# Altium schematic symbol library Connectors.SchLib: 197 symbols (part 1 of 2)
Pins are listed as number, name and electrical type; pins without a type are passive.

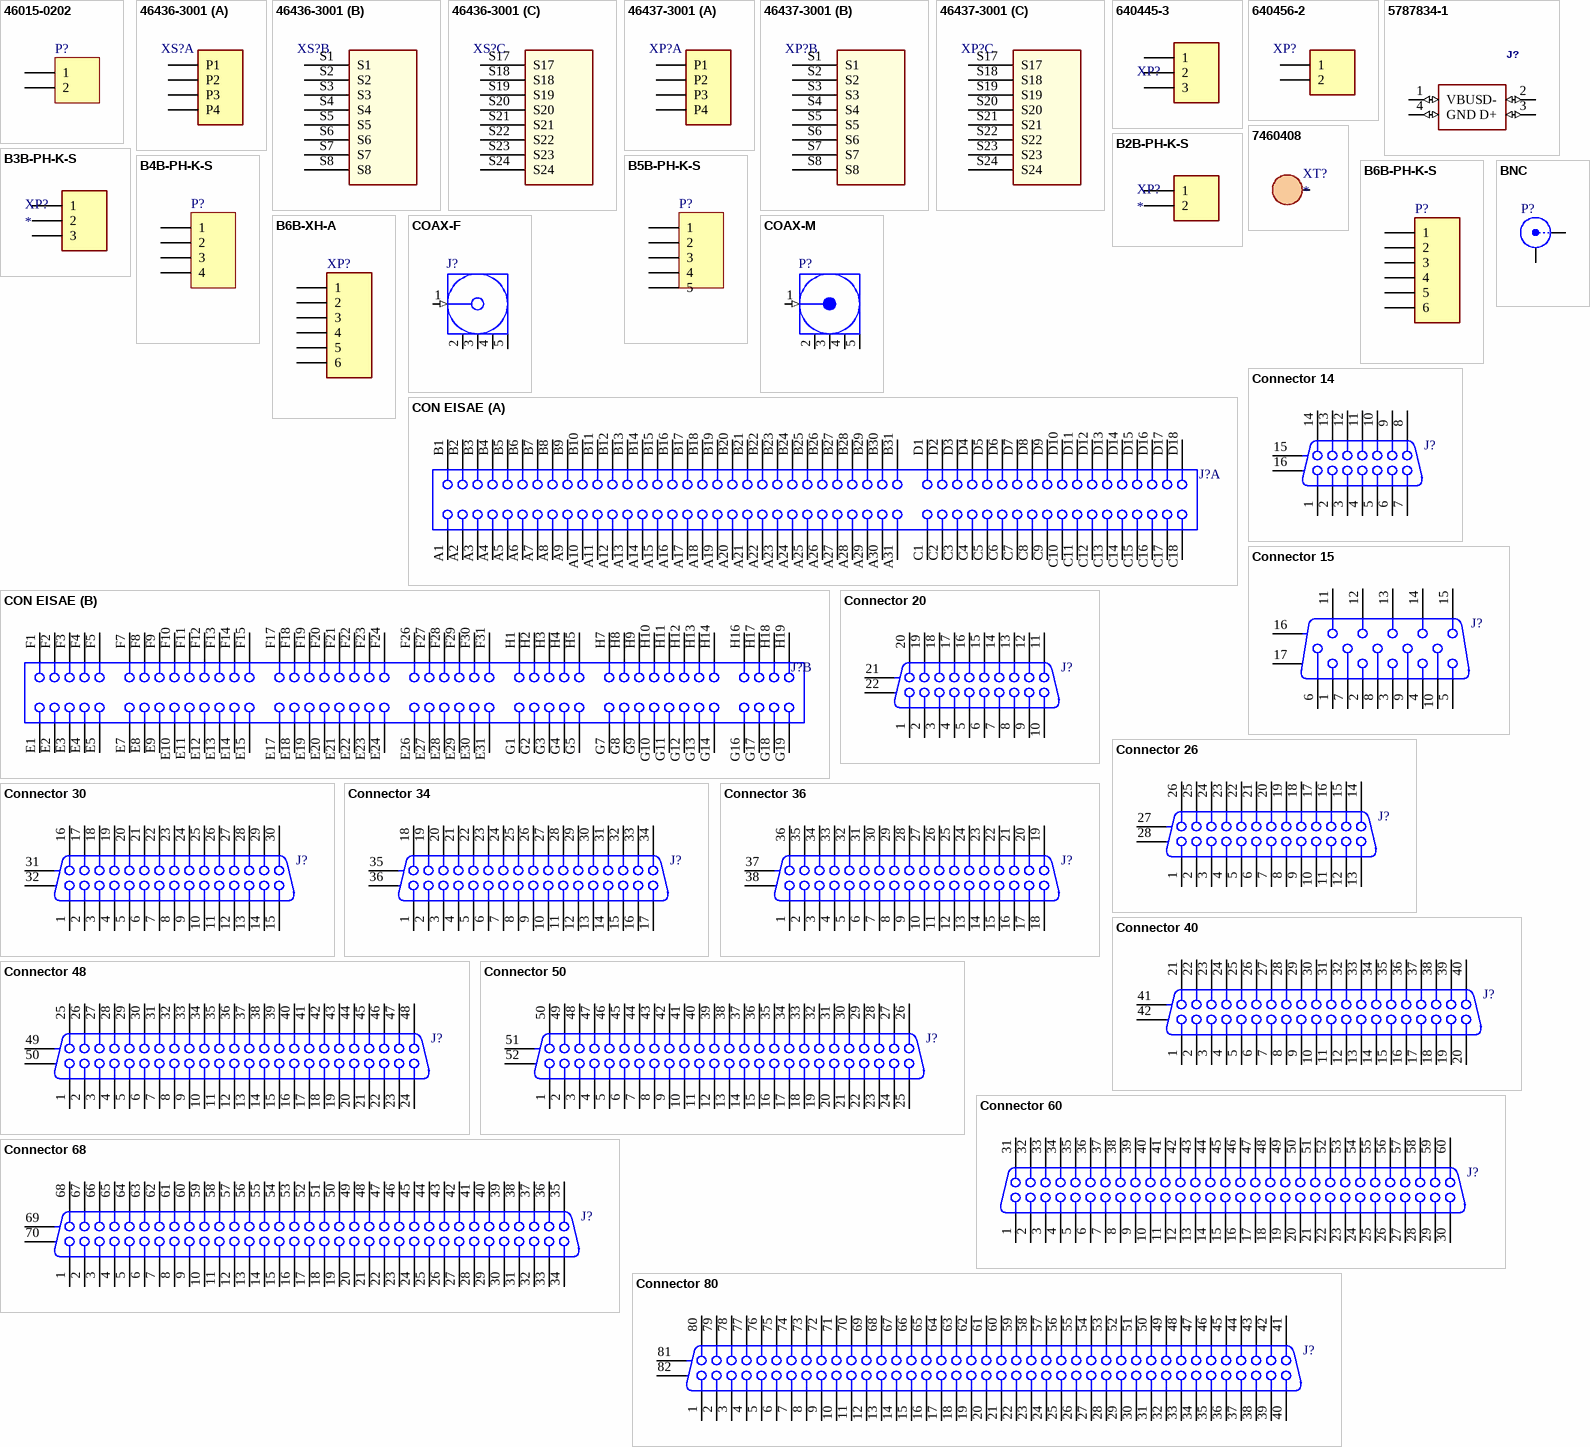
[diagram p0: symbols 46015-0202 to Connector 80]

## 46015-0202
designator P?
Header, 2-Pin, 4.2 mm, 13 A; Manufacturer: Molex; PurtNumber: 46015-0202
footprint 46015-0202
signal-integrity model Connector
pins: 1, 2

## 46436-3001
designator XS?
2.54mm, 5.50mm Pitch EXTreme Ten60Power Right-Angle Receptacle with Guide Receivers, 24 Signal Circuits, 4 Power Circuits; Manufacturer: TE Connectivity; PurtNumber: 46436-3001; System: Connector; ComponentLink1Description: OP; ComponentLink1URL: https://www.molex.com/molex/products/datasheet.jsp?part=active/0464363001_PCB_RECEPTACLES.xml&channel=Products&Lang=en-US
footprint 46436-3001
part A pins: P1, P2, P3, P4
part B pins: S1, S2, S3, S4, S5, S6, S7, S8
part C pins: S17, S18, S19, S20, S21, S22, S23, S24

## 46437-3001
designator XP?
2.54mm, 5.50mm Pitch EXTreme Ten60Power Right-Angle Plug Assembly with Guide Pins, 4 DC Power Circuits, 24 Signal Circuits; Manufacturer: TE Connectivity; PurtNumber: 46437-3001; System: Connector; ComponentLink1Description: OP; ComponentLink1URL: https://www.molex.com/molex/products/datasheet.jsp?part=active/0464363001_PCB_RECEPTACLES.xml&channel=Products&Lang=en-US
footprint 46437-3001
part A pins: P1, P2, P3, P4
part B pins: S1, S2, S3, S4, S5, S6, S7, S8
part C pins: S17, S18, S19, S20, S21, S22, S23, S24

## 640445-3
designator XP?
03P MTA156 HDR ASSY FL/STR SN; Manufacturer: TE Connectivity; PurtNumber: 640445-3
footprint 640445-3 - TE CONNECTIVVITY
pins: 1, 2, 3

## 640456-2
designator XP?
02P MTA100 HDR ASSY F/L SQ STR; Manufacturer: TE Connectivity; PurtNumber: 640456-2
footprint 640456-2 - TE CONNECTIVITY
pins: 1, 2

## 5787834-1
designator J?
USB type B vertical thru-hole socketSource:  Datasheet; Manufacturer_Name: TE Connectivity; GateName_1: G$1; SymbolName_1: 5787834-1; LibraryName: 5787834-1; DeviceSetName: 5787834-1; Package: 5787834-1; Mouser_Part_Number: 571-5787834-1; Mouser_Price-Stock: https://www.mouser.com/Search/Refine.aspx?Keyword=571-5787834-1; Manufacturer_Part_Number: 5787834-1; Height: mm
footprint 5787834-1
pins: 1 VBUS (io), 2 D- (io), 3 D+ (io), 4 GND (io)

## 7460408
designator XT?
Bush M5, 175 A; Manufacturer: Wurt; PurtNumber: 7460408; ComponentLink1Description: DS; ComponentLink1URL: https://ru.mouser.com/datasheet/2/445/7460408-538106.pdf
footprint 7460408 (Drill hole specification for chemical surfaces)
pins: 1

## B2B-PH-K-S
designator XP?
Manufacturer: JST; PurtNumber: B3B-PH-K-S
footprint B2B-PH-K-S
pins: 1, 2

## B3B-PH-K-S
designator XP?
Manufacturer: JST; PurtNumber: B3B-PH-K-S
footprint B3B-PH-K-S
pins: 1, 2, 3

## B4B-PH-K-S
designator P?
Header, 5-Pin B5B-PH-K-S; Manufacturer: JST; PurtNumber: B4B-PH-K-S
footprint B4B-PH-K-S
signal-integrity model Connector
pins: 1, 2, 3, 4

## B5B-PH-K-S
designator P?
Header, 5-Pin B5B-PH-K-S; LatestRevisionDate: 17-Jul-2002; LatestRevisionNote: Re-released for DXP Platform.; Publisher: Altium Limited
footprint B5B-PH-K-S
signal-integrity model Connector
pins: 1, 2, 3, 4, 5

## B6B-PH-K-S
designator P?
Header, 6-Pin; LatestRevisionDate: 17-Jul-2002; LatestRevisionNote: Re-released for DXP Platform.; Publisher: Altium Limited
footprint B6B-PH-K-S
signal-integrity model Connector
pins: 1, 2, 3, 4, 5, 6

## B6B-XH-A
designator XP?
B6B-XH-A; Manufacturer: JST; System: Connector; PurtNumber: B6B-XH-A
footprint B6B-XH-A
signal-integrity model Connector
pins: 1, 2, 3, 4, 5, 6

## BNC
designator P?
BNC Elbow Connector; LatestRevisionDate: 17-Jul-2002; LatestRevisionNote: Re-released for DXP Platform.; Publisher: Altium Limited
footprint BNC_RA CON (Connector; BNC Elbow)
signal-integrity model Connector
pins: 1 X, 2 Y

## COAX-F
designator J?
RF Coaxial PCB Connector, MCX; Thru-Hole, Right-Angle Mount Socket, Blunt Post Terminal, 50 Ohm Impedance; PCB_Layout: Complies with manufacturer's recommendation.; DrillSize: Corresponds to nominal value.; Published: 15-Jul-2004; LatestRevisionDate: 15-Jul-2004; LatestRevisionNote: Component Replaced.; DatasheetDocument: 30-May-2003; PackageDocument: 04-Jul-1999; PackageReference: 919-119J-51AX; Publisher: Altium Limited; ComponentLink1Description: Manufacturer Link; ComponentLink1URL: http://www.amphenolrf.com/
footprint MCX5.08-H5 (Connector; RF Coaxial, MCX, Thru-Hole; 5 Position; Right-Angle)
pins: 1 Signal (in) "Signal Pin", 2 GND (power), 3 GND (power), 4 GND (power), 5 GND (power)

## COAX-M
designator P?
RF Coaxial PCB Connector, MMCX; Thru-Hole, Vertical Mount Plug,  50 Ohm Impedance; PackageDocument: Rev. A, 16-Jun-1997; PCB_Layout: Complies with manufacturer's recommendation.; DrillSize: Corresponds to nominal value.; Published: 15-Jul-2004; LatestRevisionDate: 15-Jul-2004; LatestRevisionNote: Component Replaced.; DatasheetDocument: 30-May-2003; PackageReference: 908-21103; Publisher: Altium Limited; ComponentLink1Description: Manufacturer Link; ComponentLink1URL: http://www.amphenolrf.com/
footprint MMCX2.54-V5 (Connector; RF Coaxial, MMCX, Thru-Hole; 5 Position; Vertical)
pins: 1 Signal (in) "Signal Pin", 2 GND (power), 3 GND (power), 4 GND (power), 5 GND (power)

## CON EISAE
designator J?
EISA Connector, 188 Positions, Vertical, Pitch 1.27mm; ContactPlating: Gold Flash; PCB_Layout: Complies with manufacturer's recommendation.; DrillSize: Corresponds to nominal value.; Note: Access Keys, E6 E16 E25 F6 F16 F25 G6 G15 H6 H15 not shown.; Published: 15-Jul-2004; LatestRevisionDate: 15-Jul-2004; LatestRevisionNote: Component Replaced.; DatasheetDocument: Feb-1997; PackageDocument: Feb-1997; PackageReference: EISA188; Publisher: Altium Limited; ComponentLink1Description: Manufacturer Link; ComponentLink1URL: http://www.astron.com.tw
footprint CARD1.27-2V188 (Connector; EISA, Thru-Hole; 188 Position; Vertical; Pitch 1.27 mm)
signal-integrity model EISA
part A pins: A1 CHCHK#, A2 SD7, A3 SD6, A4 SD5, A5 SD4, A6 SD3, A7 SD2, A8 SD1, A9 SD0, A10 CHRDY, A11 AEN, A12 SA19, A13 SA18, A14 SA17, A15 SA16, A16 SA15, A17 SA14, A18 SA13, A19 SA12, A20 SA11, A21 SA10, A22 SA9, A23 SA8, A24 SA7, A25 SA6, A26 SA5, A27 SA4, A28 SA3, A29 SA2, A30 SA1, A31 SA0, B1 GND "Ground", B2 RESDRV#, B3 +5V "+5 VDC", B4 IRQ2, B5 -5V, B6 DRQ2, B7 -12V, B8 NOWS#, B9 +12V "+12 VDC", B10 GND, B11 SMWTC#, B12 SMRDC#, B13 IOWC#, B14 IORC#, B15 DAK3#, B16 DRQ3, B17 DAK1#, B18 DRQ1, B19 REFRESH#, B20 BCLK, B21 IRQ7, B22 IRQ6, B23 IRQ5, B24 IRQ4, B25 IRQ3, B26 DAK2#, B27 TC, B28 BALE, B29 +5V "+5 VDC", B30 OSC, B31 GND "Ground", C1 SBHE#, C2 LA23, C3 LA22, C4 LA21, C5 LA20, C6 LA19, C7 LA18, C8 LA17, C9 MRDC#, C10 MWTC#, C11 SD8, C12 SD9, C13 SD10, C14 SD11, C15 SD12, C16 SD13, C17 SD14, C18 SD15, D1 M16#, D2 IO16#, D3 IRQ10, D4 IRQ11, D5 IRQ12, D6 IRQ13, D7 IRQ14, D8 DAK0#, D9 DRQ0, D10 DAK5#, D11 DRQ5, D12 DAK6#, D13 DRQ65, D14 DAK7#, D15 DRQ7, D16 +5V "+5 VDC", D17 MASTER16#, D18 GND "Ground"
part B pins: E1 CMD# "Command Phase", E2 START# "Start Phase", E3 EXRDY "EISA Ready", E4 EX32# "EISA Slave Size 32", E5 GND "Ground", E7 EX16# "EISA Slave Size 16", E8 SLBURST# "Slave Burst", E9 MSBURST# "Master Burst", E10 W/R# "Write/Read", E11 GND "Ground", E12 RES "Reserved", E13 RES "Reserved", E14 RES "Reserved", E15 GND "Ground", E17 BE1# "Byte Enable 1", E18 LA31# "Latchable Addressline 31", E19 GND "Ground", E20 LA30# "Latchable Addressline 30", E21 LA28# "Latchable Addressline 28", E22 LA27# "Latchable Addressline 27", E23 LA25# "Latchable Addressline 25", E24 GND "Ground", E26 LA15 "Latchable Addressline 15", E27 LA13 "Latchable Addressline 13", E28 LA12 "Latchable Addressline 12", E29 LA11 "Latchable Addressline 11", E30 GND "Ground", E31 LA9 "Latchable Addressline 9", F1 GND "Ground", F2 +5V "+5 VDC", F3 +5V "+5 VDC", F4 RES "Reserved", F5 RES "Reserved", F7 RES "Reserved", F8 RES "Reserved", F9 +12V "+12 VDC", F10 M/IO# "Memory/Input-Output", F11 LOCK# "Lock bus", F12 RES "Reserved", F13 GND "Ground", F14 RES "Reserved", F15 BE3# "Byte Enable 3", F17 BE2# "Byte Enable 2", F18 BE0# "Byte Enable 0", F19 GND "Ground", F20 +5V "+5 VDC", F21 LA29# "Latchable Addressline 29", F22 GND "Ground", F23 LA26# "Latchable Addressline 26", F24 LA24# "Latchable Addressline 24", F26 LA16 "Latchable Addressline 16", F27 LA14 "Latchable Addressline 14", F28 +5V "+5 VDC", F29 +5V "+5 VDC", F30 GND "Ground", F31 LA10 "Latchable Addressline 10", G1 LA7 "Latchable Addressline 7", G2 GND "Ground", G3 LA4 "Latchable Addressline 4", G4 LA3 "Latchable Addressline 3", G5 GND "Ground", G7 D17 "Data 17", G8 D19 "Data 19", G9 D20 "Data 20", G10 D22 "Data 22", G11 GND "Ground", G12 D25 "Data 25", G13 D26 "Data 26", G14 D28 "Data 28", G16 GND "Ground", G17 D30 "Data 30", G18 D31 "Data 31", G19 MREQx "Master Request", H1 LA8 "Latchable Addressline 8", H2 LA6 "Latchable Addressline 6", H3 LA5 "Latchable Addressline 5", H4 +5V "+5 VDC", H5 LA2 "Latchable Addressline 2", H7 D16 "Data 16", H8 D18 "Data 18", H9 GND "Ground", H10 D21 "Data 21", H11 D23 "Data 23", H12 D24 "Data 24", H13 GND "Ground", H14 D27 "Data 27", H16 D29 "Data 29", H17 +5V "+5 VDC", H18 +5V "+5 VDC", H19 MAKx "Master Acknowledge"

## Connector 14
designator J?
Receptacle Header Assemby; PackageDocument: B; Positions: 14; Published: 15-Jun-2001; LatestRevisionDate: 17-Jul-2002; LatestRevisionNote: Re-released for DXP Platform.; DatasheetDocument: 1-Oct-1983; PackageReference: 178240-1; Publisher: Altium Limited; Orientation: Right Angle
footprint CHAMP1.27-2H14A (Connector; 14 Position; Right Angle; Pitch 1.27 mm)
signal-integrity model Connector
pins: 1, 2, 3, 4, 5, 6, 7, 8, 9, 10, 11, 12, 13, 14, 15 MH1, 16 MH2

## Connector 15
designator J?
Receptacle Assembly, 15-Pin, Sim Line Connector; PackageDocument: B; Positions: 15; Gender: Receptacle Header; Published: 15-Jun-2001; LatestRevisionDate: 17-Jul-2002; LatestRevisionNote: Re-released for DXP Platform.; DatasheetDocument: 24-Nov-1999; PackageReference: 788574; Publisher: Altium Limited; Orientation: Right Angle
footprint 050DSUB0.762-4H15 (Connector; D Subminiature; 15 Position; Right Angle; Pitch 0.762 mm)
signal-integrity model Connector
pins: 1, 2, 3, 4, 5, 6, 7, 8, 9, 10, 11, 12, 13, 14, 15, 16 MH1, 17 MH2

## Connector 20
designator J?
Receptacle Header Assemby; PackageDocument: B; Positions: 20; Published: 15-Jun-2001; LatestRevisionDate: 17-Jul-2002; LatestRevisionNote: Re-released for DXP Platform.; DatasheetDocument: 1-Oct-1983; PackageReference: 178240-2; Publisher: Altium Limited; Orientation: Right Angle
footprint CHAMP1.27-2H20 (Connector; 20 Position; Right Angle; Pitch 1.27 mm)
signal-integrity model Connector
pins: 1, 2, 3, 4, 5, 6, 7, 8, 9, 10, 11, 12, 13, 14, 15, 16, 17, 18, 19, 20, 21 MH1, 22 MH2

## Connector 26
designator J?
Receptacle Header Assemby; PackageDocument: B; Positions: 26; Published: 15-Jun-2001; LatestRevisionDate: 17-Jul-2002; LatestRevisionNote: Re-released for DXP Platform.; DatasheetDocument: 1-Oct-1983; PackageReference: 178240-4; Publisher: Altium Limited; Orientation: Right Angle
footprint CHAMP1.27-2H26 (Connector; 26 Position; Right Angle; Pitch 1.27 mm)
signal-integrity model Connector
pins: 1, 2, 3, 4, 5, 6, 7, 8, 9, 10, 11, 12, 13, 14, 15, 16, 17, 18, 19, 20, 21, 22, 23, 24, 25, 26, 27 MH1, 28 MH2

## Connector 30
designator J?
Plug Assembly, 30-Pin Connector; PackageDocument: E; Positions: 30; Gender: Receptacle Header; Published: 15-Jun-2001; LatestRevisionDate: 17-Jul-2002; LatestRevisionNote: Re-released for DXP Platform.; DatasheetDocument: 31-Oct-1991; PackageReference: 174213-1; Publisher: Altium Limited; Orientation: Right Angle
footprint 050DSUB1.27-2H30 (Connector; D Subminiature; 30 Position; Right Angle; Pitch 1.27 mm)
signal-integrity model Connector
pins: 1, 2, 3, 4, 5, 6, 7, 8, 9, 10, 11, 12, 13, 14, 15, 16, 17, 18, 19, 20, 21, 22, 23, 24, 25, 26, 27, 28, 29, 30, 31 MH1, 32 MH2

## Connector 34
designator J?
Plug Assembly, 34-Pin Connector; PackageDocument: F; Positions: 34; Gender: Receptacle Header; Published: 15-Jun-2001; LatestRevisionDate: 17-Jul-2002; LatestRevisionNote: Re-released for DXP Platform.; DatasheetDocument: 3-Apr-1991; PackageReference: 174207-5; Publisher: Altium Limited; Orientation: Right Angle
footprint 050DSUB1.27-2H34 (Connector; D Subminiature; 34 Position; Right Angle; Pitch 1.27 mm)
signal-integrity model Connector
pins: 1, 2, 3, 4, 5, 6, 7, 8, 9, 10, 11, 12, 13, 14, 15, 16, 17, 18, 19, 20, 21, 22, 23, 24, 25, 26, 27, 28, 29, 30, 31, 32, 33, 34, 35 MH1, 36 MH2

## Connector 36
designator J?
Receptacle Header Assemby; PackageDocument: B; Positions: 36; Published: 15-Jun-2001; LatestRevisionDate: 17-Jul-2002; LatestRevisionNote: Re-released for DXP Platform.; DatasheetDocument: 1-Oct-1983; PackageReference: 178240-5; Publisher: Altium Limited; Orientation: Right Angle
footprint CHAMP1.27-2H36 (Connector; 36 Position; Right Angle; Pitch 1.27 mm)
signal-integrity model Connector
pins: 1, 2, 3, 4, 5, 6, 7, 8, 9, 10, 11, 12, 13, 14, 15, 16, 17, 18, 19, 20, 21, 22, 23, 24, 25, 26, 27, 28, 29, 30, 31, 32, 33, 34, 35, 36, 37 MH1, 38 MH2

## Connector 40
designator J?
Plug Assembly, 40-Pin Connector; PackageDocument: E; Positions: 40; Gender: Receptacle Header; Published: 15-Jun-2001; LatestRevisionDate: 17-Jul-2002; LatestRevisionNote: Re-released for DXP Platform.; DatasheetDocument: 31-Oct-1991; PackageReference: 174213-2; Publisher: Altium Limited; Orientation: Right Angle
footprint 050DSUB1.27-2H40 (Connector; D Subminiature; 40 Position; Right Angle; Pitch 1.27 mm)
signal-integrity model Connector
pins: 1, 2, 3, 4, 5, 6, 7, 8, 9, 10, 11, 12, 13, 14, 15, 16, 17, 18, 19, 20, 21, 22, 23, 24, 25, 26, 27, 28, 29, 30, 31, 32, 33, 34, 35, 36, 37, 38, 39, 40, 41 MH1, 42 MH2

## Connector 48
designator J?
Plug Assembly, 48-Pin Connector; PackageDocument: F; Positions: 48; Gender: Receptacle Header; Published: 15-Jun-2001; LatestRevisionDate: 17-Jul-2002; LatestRevisionNote: Re-released for DXP Platform.; DatasheetDocument: 3-Apr-1991; PackageReference: 174207-6; Publisher: Altium Limited; Orientation: Right Angle
footprint 050DSUB1.27-2H48 (Connector; D Subminiature; 48 Position; Right Angle; Pitch 1.27 mm)
signal-integrity model Connector
pins: 1, 2, 3, 4, 5, 6, 7, 8, 9, 10, 11, 12, 13, 14, 15, 16, 17, 18, 19, 20, 21, 22, 23, 24, 25, 26, 27, 28, 29, 30, 31, 32, 33, 34, 35, 36, 37, 38, 39, 40, 41, 42, 43, 44, 45, 46, 47, 48, 49 MH1, 50 MH2

## Connector 50
designator J?
Receptacle Header Assemby; PackageDocument: B; Positions: 50; Published: 15-Jun-2001; LatestRevisionDate: 17-Jul-2002; LatestRevisionNote: Re-released for DXP Platform.; DatasheetDocument: 1-Oct-1983; PackageReference: 178240-7; Publisher: Altium Limited; Orientation: Right Angle
footprint CHAMP1.27-2H50 (Connector; 50 Position; Right Angle; Pitch 1.27 mm)
signal-integrity model Connector
pins: 1, 2, 3, 4, 5, 6, 7, 8, 9, 10, 11, 12, 13, 14, 15, 16, 17, 18, 19, 20, 21, 22, 23, 24, 25, 26, 27, 28, 29, 30, 31, 32, 33, 34, 35, 36, 37, 38, 39, 40, 41, 42, 43, 44, 45, 46, 47, 48, 49, 50, 51 MH1, 52 MH2

## Connector 60
designator J?
Plug Assembly, 60-Pin Connector; PackageDocument: D; Positions: 60; Gender: Receptacle Header; Published: 15-Jun-2001; LatestRevisionDate: 17-Jul-2002; LatestRevisionNote: Re-released for DXP Platform.; DatasheetDocument: 1-Apr-1991; PackageReference: 174215-4; Publisher: Altium Limited; Orientation: Vertical
footprint 050DSUB1.27-V60 (Connector; D Subminiature; 60 Position; Vertical; Pitch 1.27 mm)
signal-integrity model Connector
pins: 1, 2, 3, 4, 5, 6, 7, 8, 9, 10, 11, 12, 13, 14, 15, 16, 17, 18, 19, 20, 21, 22, 23, 24, 25, 26, 27, 28, 29, 30, 31, 32, 33, 34, 35, 36, 37, 38, 39, 40, 41, 42, 43, 44, 45, 46, 47, 48, 49, 50, 51, 52, 53, 54, 55, 56, 57, 58, 59, 60

## Connector 68
designator J?
Receptacle Header Assemby; PackageDocument: B; Positions: 68; Published: 15-Jun-2001; LatestRevisionDate: 17-Jul-2002; LatestRevisionNote: Re-released for DXP Platform.; DatasheetDocument: 1-Oct-1983; PackageReference: 178240-8; Publisher: Altium Limited; Orientation: Right Angle
footprint CHAMP1.27-2H68 (Connector; 68 Position; Right Angle; Pitch 1.27 mm)
signal-integrity model Connector
pins: 1, 2, 3, 4, 5, 6, 7, 8, 9, 10, 11, 12, 13, 14, 15, 16, 17, 18, 19, 20, 21, 22, 23, 24, 25, 26, 27, 28, 29, 30, 31, 32, 33, 34, 35, 36, 37, 38, 39, 40, 41, 42, 43, 44, 45, 46, 47, 48, 49, 50, 51, 52, 53, 54, 55, 56, 57, 58, 59, 60, 61, 62, 63, 64, 65, 66, 67, 68, 69 MH1, 70 MH2

## Connector 80
designator J?
Receptacle Header Assemby; PackageDocument: C; Positions: 80; Published: 15-Jun-2001; LatestRevisionDate: 17-Jul-2002; LatestRevisionNote: Re-released for DXP Platform.; DatasheetDocument: 1-Oct-1983; PackageReference: 917334; Publisher: Altium Limited; Orientation: Vertical
footprint CHAMP1.27-2V80 (Connector; 80 Position; Vertical; Pitch 1.27 mm)
signal-integrity model Connector
pins: 1, 2, 3, 4, 5, 6, 7, 8, 9, 10, 11, 12, 13, 14, 15, 16, 17, 18, 19, 20, 21, 22, 23, 24, 25, 26, 27, 28, 29, 30, 31, 32, 33, 34, 35, 36, 37, 38, 39, 40, 41, 42, 43, 44, 45, 46, 47, 48, 49, 50, 51, 52, 53, 54, 55, 56, 57, 58, 59, 60, 61, 62, 63, 64, 65, 66, 67, 68, 69, 70, 71, 72, 73, 74, 75, 76, 77, 78, 79, 80, 81 MH1, 82 MH2

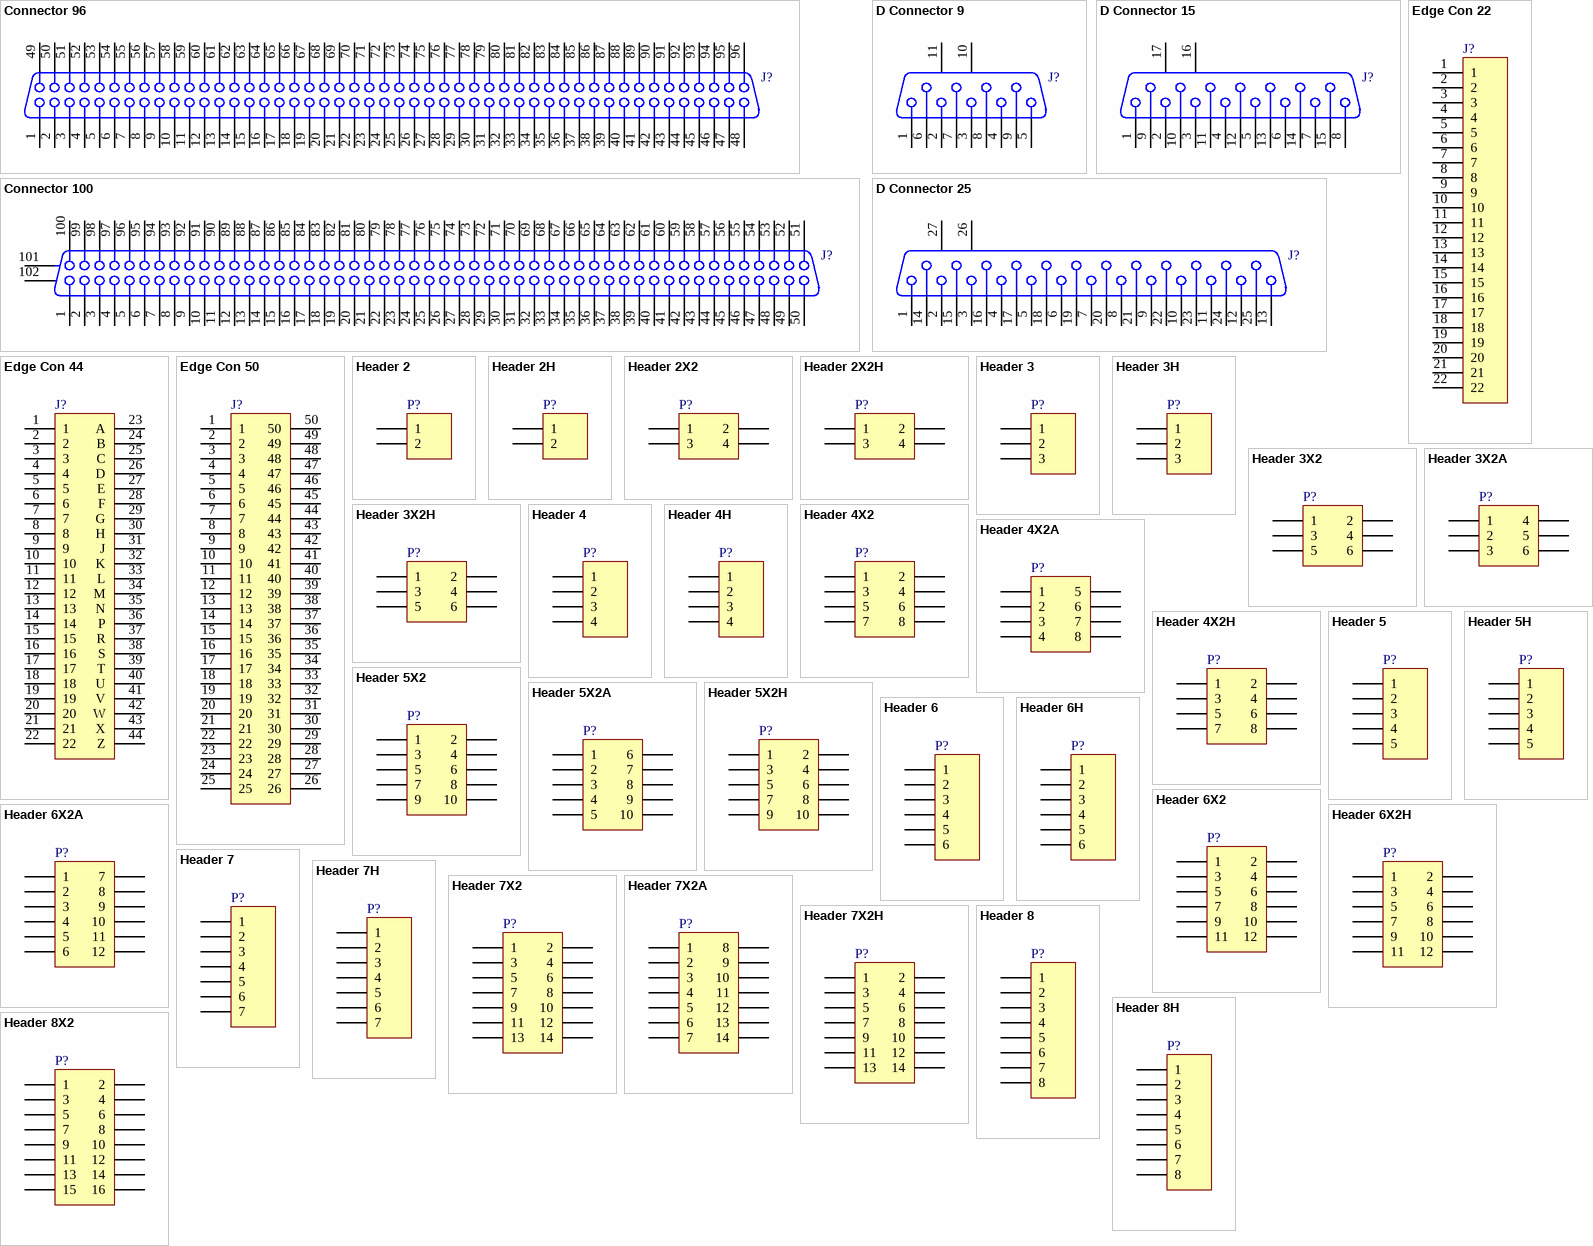
[diagram p1: symbols Connector 96 to Header 8X2]

## Connector 96
designator J?
Plug Assembly, 96-Pin Connector; PackageDocument: C; Positions: 96; Gender: Receptacle Header; Published: 15-Jun-2001; LatestRevisionDate: 17-Jul-2002; LatestRevisionNote: Re-released for DXP Platform.; DatasheetDocument: 29-Mar-1991; PackageReference: 3-174682-8; Publisher: Altium Limited; Orientation: Right Angle
footprint 050DSUB1.27-H96 (Connector; D Subminiature; 96 Position; Right Angle; Pitch 1.27 mm)
signal-integrity model Connector
pins: 1, 2, 3, 4, 5, 6, 7, 8, 9, 10, 11, 12, 13, 14, 15, 16, 17, 18, 19, 20, 21, 22, 23, 24, 25, 26, 27, 28, 29, 30, 31, 32, 33, 34, 35, 36, 37, 38, 39, 40, 41, 42, 43, 44, 45, 46, 47, 48, 49, 50, 51, 52, 53, 54, 55, 56, 57, 58, 59, 60, 61, 62, 63, 64, 65, 66, 67, 68, 69, 70, 71, 72, 73, 74, 75, 76, 77, 78, 79, 80, 81, 82, 83, 84, 85, 86, 87, 88, 89, 90, 91, 92, 93, 94, 95, 96

## Connector 100
designator J?
Receptacle Header Assemby; PackageDocument: B; Positions: 100; Published: 15-Jun-2001; LatestRevisionDate: 17-Jul-2002; LatestRevisionNote: Re-released for DXP Platform.; DatasheetDocument: 1-Oct-1983; PackageReference: 178240-9; Publisher: Altium Limited; Orientation: Right Angle
footprint CHAMP1.27-2H100 (Connector; 100 Position; Right Angle; Pitch 1.27 mm)
signal-integrity model Connector
pins: 1, 2, 3, 4, 5, 6, 7, 8, 9, 10, 11, 12, 13, 14, 15, 16, 17, 18, 19, 20, 21, 22, 23, 24, 25, 26, 27, 28, 29, 30, 31, 32, 33, 34, 35, 36, 37, 38, 39, 40, 41, 42, 43, 44, 45, 46, 47, 48, 49, 50, 51, 52, 53, 54, 55, 56, 57, 58, 59, 60, 61, 62, 63, 64, 65, 66, 67, 68, 69, 70, 71, 72, 73, 74, 75, 76, 77, 78, 79, 80, 81, 82, 83, 84, 85, 86, 87, 88, 89, 90, 91, 92, 93, 94, 95, 96, 97, 98, 99, 100, 101 MH1, 102 MH2

## D Connector 9
designator J?
Receptacle Assembly, 9 Position, Right Angle; PackageDocument: O; Positions: 9; Published: 15-Jun-2001; LatestRevisionDate: 17-Jul-2002; LatestRevisionNote: Re-released for DXP Platform.; DatasheetDocument: 1-Sep-1999; PackageReference: 788750; Publisher: Altium Limited; Orientation: Right Angle; Gender: Receptacle
footprint DSUB1.385-2H9 (Connector; D Subminiature; 9 Position; Right Angle; Pitch 1.385 mm)
signal-integrity model Connector
pins: 1, 2, 3, 4, 5, 6, 7, 8, 9, 10 MH1, 11 MH2

## D Connector 15
designator J?
Receptacle Assembly, 15 Position, Right Angle; PackageDocument: O; Positions: 15; Published: 15-Jun-2001; LatestRevisionDate: 17-Jul-2002; LatestRevisionNote: Re-released for DXP Platform.; DatasheetDocument: 1-Sep-99; PackageReference: 788757; Publisher: Altium Limited; Orientation: Right Angle; Gender: Receptacle
footprint DSUB1.385-2H15 (Connector; D Subminiature; 15 Position; Right Angle; Pitch 1.385 mm)
signal-integrity model Connector
pins: 1, 2, 3, 4, 5, 6, 7, 8, 9, 10, 11, 12, 13, 14, 15, 16 MH1, 17 MH2

## D Connector 25
designator J?
Receptacle Assembly, 25 Position, Right Angle; PackageDocument: U; Positions: 25; Published: 15-Jun-2001; LatestRevisionDate: 17-Jul-2002; LatestRevisionNote: Re-released for DXP Platform.; DatasheetDocument: 19-Mar-1999; PackageReference: 787202; Publisher: Altium Limited; Orientation: Right Angle; Gender: Receptacle
footprint DSUB1.385-2H25A (Connector; D Subminiature; 25 Position; Right Angle; Pitch 1.385 mm)
signal-integrity model Connector
pins: 1, 2, 3, 4, 5, 6, 7, 8, 9, 10, 11, 12, 13, 14, 15, 16, 17, 18, 19, 20, 21, 22, 23, 24, 25, 26 MH1, 27 MH2

## Edge Con 22
designator J?
22-Pin Edge Connector; LatestRevisionDate: 17-Jul-2002; LatestRevisionNote: Re-released for DXP Platform.; Publisher: Altium Limited
footprint PIN22 (Connector; Edge; 22 Position)
signal-integrity model Connector
pins: 1, 2, 3, 4, 5, 6, 7, 8, 9, 10, 11, 12, 13, 14, 15, 16, 17, 18, 19, 20, 21, 22

## Edge Con 44
designator J?
44-Pin Edge Connector; LatestRevisionDate: 17-Jul-2002; LatestRevisionNote: Re-released for DXP Platform.; Publisher: Altium Limited
footprint PIN44 (Connector; Edge; 44 Position)
signal-integrity model Connector
pins: 1, 2, 3, 4, 5, 6, 7, 8, 9, 10, 11, 12, 13, 14, 15, 16, 17, 18, 19, 20, 21, 22, 23 A, 24 B, 25 C, 26 D, 27 E, 28 F, 29 G, 30 H, 31 J, 32 K, 33 L, 34 M, 35 N, 36 P, 37 R, 38 S, 39 T, 40 U, 41 V, 42 W, 43 X, 44 Z

## Edge Con 50
designator J?
50-Pin Edge Connector; LatestRevisionDate: 17-Jul-2002; LatestRevisionNote: Re-released for DXP Platform.; Publisher: Altium Limited
footprint PIN50 (Connector; Edge; 50 Position)
signal-integrity model Connector
pins: 1, 2, 3, 4, 5, 6, 7, 8, 9, 10, 11, 12, 13, 14, 15, 16, 17, 18, 19, 20, 21, 22, 23, 24, 25, 26, 27, 28, 29, 30, 31, 32, 33, 34, 35, 36, 37, 38, 39, 40, 41, 42, 43, 44, 45, 46, 47, 48, 49, 50

## Header 2
designator P?
Header, 2-Pin; LatestRevisionDate: 17-Jul-2002; LatestRevisionNote: Re-released for DXP Platform.; Publisher: Altium Limited
footprint HDR1X2 (Connector; Header; 2 Position)
signal-integrity model Connector
pins: 1, 2

## Header 2H
designator P?
Header, 2-Pin, Right Angle; LatestRevisionDate: 17-Jul-2002; LatestRevisionNote: Re-released for DXP Platform.; Publisher: Altium Limited
footprint HDR1X2H (Connector; Header; 2 Position; Right Angle)
signal-integrity model Connector
pins: 1, 2

## Header 2X2
designator P?
Header, 2-Pin, Dual row; LatestRevisionDate: 17-Jul-2002; LatestRevisionNote: Re-released for DXP Platform.; Publisher: Altium Limited
footprint HDR2X2 (Connector; Header; 2x2 Position)
signal-integrity model Connector
pins: 1, 2, 3, 4

## Header 2X2H
designator P?
Header, 2-Pin, Dual row, Right Angle; LatestRevisionDate: 17-Jul-2002; LatestRevisionNote: Re-released for DXP Platform.; Publisher: Altium Limited
footprint HDR2X2H (Connector; Header; 2x2 Position; Right Angle)
signal-integrity model Connector
pins: 1, 2, 3, 4

## Header 3
designator P?
Header, 3-Pin; LatestRevisionDate: 17-Jul-2002; LatestRevisionNote: Re-released for DXP Platform.; Publisher: Altium Limited
footprint HDR1X3 (Connector; Header; 3 Position)
signal-integrity model Connector
pins: 1, 2, 3

## Header 3H
designator P?
Header, 3-Pin, Right Angle; LatestRevisionDate: 17-Jul-2002; LatestRevisionNote: Re-released for DXP Platform.; Publisher: Altium Limited
footprint HDR1X3H (Connector; Header; 3 Position; Right Angle)
signal-integrity model Connector
pins: 1, 2, 3

## Header 3X2
designator P?
Header, 3-Pin, Dual row; LatestRevisionDate: 17-Jul-2002; LatestRevisionNote: Re-released for DXP Platform.; Publisher: Altium Limited
footprint HDR2X3 (Connector; Header; 3x2 Position)
signal-integrity model Connector
pins: 1, 2, 3, 4, 5, 6

## Header 3X2A
designator P?
Header, 3-Pin, Dual row; LatestRevisionDate: 17-Jul-2002; LatestRevisionNote: Re-released for DXP Platform.; Publisher: Altium Limited
footprint HDR2X3_CEN (Connector; Header; 3x2 Position)
signal-integrity model Connector
pins: 1, 2, 3, 4, 5, 6

## Header 3X2H
designator P?
Header, 3-Pin, Dual row, Right Angle; LatestRevisionDate: 17-Jul-2002; LatestRevisionNote: Re-released for DXP Platform.; Publisher: Altium Limited
footprint HDR2X3H (Connector; Header; 3x2 Position; Right Angle)
signal-integrity model Connector
pins: 1, 2, 3, 4, 5, 6

## Header 4
designator P?
Header, 4-Pin; LatestRevisionDate: 17-Jul-2002; LatestRevisionNote: Re-released for DXP Platform.; Publisher: Altium Limited
footprint HDR1X4 (Connector; Header; 4 Position)
signal-integrity model Connector
pins: 1, 2, 3, 4

## Header 4H
designator P?
Header, 4-Pin, Right Angle; LatestRevisionDate: 17-Jul-2002; LatestRevisionNote: Re-released for DXP Platform.; Publisher: Altium Limited
footprint HDR1X4H (Connector; Header; 4 Position; Right Angle)
signal-integrity model Connector
pins: 1, 2, 3, 4

## Header 4X2
designator P?
Header, 4-Pin, Dual row; LatestRevisionDate: 17-Jul-2002; LatestRevisionNote: Re-released for DXP Platform.; Publisher: Altium Limited
footprint HDR2X4 (Connector; Header; 4x2 Position)
signal-integrity model Connector
pins: 1, 2, 3, 4, 5, 6, 7, 8

## Header 4X2A
designator P?
Header, 4-Pin, Dual row; LatestRevisionDate: 17-Jul-2002; LatestRevisionNote: Re-released for DXP Platform.; Publisher: Altium Limited
footprint HDR2X4_CEN (Connector; Header; 4x2 Position)
signal-integrity model Connector
pins: 1, 2, 3, 4, 5, 6, 7, 8

## Header 4X2H
designator P?
Header, 4-Pin, Dual row, Right Angle; LatestRevisionDate: 17-Jul-2002; LatestRevisionNote: Re-released for DXP Platform.; Publisher: Altium Limited
footprint HDR2X4H (Connector; Header; 4x2 Position; Right Angle)
signal-integrity model Connector
pins: 1, 2, 3, 4, 5, 6, 7, 8

## Header 5
designator P?
Header, 5-Pin; LatestRevisionDate: 17-Jul-2002; LatestRevisionNote: Re-released for DXP Platform.; Publisher: Altium Limited
footprint HDR1X5 (Connector; Header; 5 Position)
signal-integrity model Connector
pins: 1, 2, 3, 4, 5

## Header 5H
designator P?
Header, 5-Pin, Right Angle; LatestRevisionDate: 17-Jul-2002; LatestRevisionNote: Re-released for DXP Platform.; Publisher: Altium Limited
footprint HDR1X5H (Connector; Header; 5 Position; Right Angle)
signal-integrity model Connector
pins: 1, 2, 3, 4, 5

## Header 5X2
designator P?
Header, 5-Pin, Dual row; LatestRevisionDate: 17-Jul-2002; LatestRevisionNote: Re-released for DXP Platform.; Publisher: Altium Limited
footprint HDR2X5 (Connector; Header; 5x2 Position)
signal-integrity model Connector
pins: 1, 2, 3, 4, 5, 6, 7, 8, 9, 10

## Header 5X2A
designator P?
Header, 5-Pin, Dual row; LatestRevisionDate: 17-Jul-2002; LatestRevisionNote: Re-released for DXP Platform.; Publisher: Altium Limited
footprint HDR2X5_CEN (Connector; Header; 5x2 Position)
signal-integrity model Connector
pins: 1, 2, 3, 4, 5, 6, 7, 8, 9, 10

## Header 5X2H
designator P?
Header, 5-Pin, Dual row, Right Angle; LatestRevisionDate: 17-Jul-2002; LatestRevisionNote: Re-released for DXP Platform.; Publisher: Altium Limited
footprint HDR2X5H (Connector; Header; 5x2 Position; Right Angle)
signal-integrity model Connector
pins: 1, 2, 3, 4, 5, 6, 7, 8, 9, 10

## Header 6
designator P?
Header, 6-Pin; LatestRevisionDate: 17-Jul-2002; LatestRevisionNote: Re-released for DXP Platform.; Publisher: Altium Limited
footprint HDR1X6 (Connector; Header; 6 Position)
signal-integrity model Connector
pins: 1, 2, 3, 4, 5, 6

## Header 6H
designator P?
Header, 6-Pin, Right Angle; LatestRevisionDate: 17-Jul-2002; LatestRevisionNote: Re-released for DXP Platform.; Publisher: Altium Limited
footprint HDR1X6H (Connector; Header; 6 Position; Right Angle)
signal-integrity model Connector
pins: 1, 2, 3, 4, 5, 6

## Header 6X2
designator P?
Header, 6-Pin, Dual row; LatestRevisionDate: 17-Jul-2002; LatestRevisionNote: Re-released for DXP Platform.; Publisher: Altium Limited
footprint HDR2X6 (Connector; Header; 6x2 Position)
signal-integrity model Connector
pins: 1, 2, 3, 4, 5, 6, 7, 8, 9, 10, 11, 12

## Header 6X2A
designator P?
Header, 6-Pin, Dual row; LatestRevisionDate: 17-Jul-2002; LatestRevisionNote: Re-released for DXP Platform.; Publisher: Altium Limited
footprint HDR2X6_CEN (Connector; Header; 6x2 Position)
signal-integrity model Connector
pins: 1, 2, 3, 4, 5, 6, 7, 8, 9, 10, 11, 12

## Header 6X2H
designator P?
Header, 6-Pin, Dual row, Right Angle; LatestRevisionDate: 17-Jul-2002; LatestRevisionNote: Re-released for DXP Platform.; Publisher: Altium Limited
footprint HDR2X6H (Connector; Header; 6x2 Position; Right Angle)
signal-integrity model Connector
pins: 1, 2, 3, 4, 5, 6, 7, 8, 9, 10, 11, 12

## Header 7
designator P?
Header, 7-Pin; LatestRevisionDate: 17-Jul-2002; LatestRevisionNote: Re-released for DXP Platform.; Publisher: Altium Limited
footprint HDR1X7 (Connector; Header; 7 Position)
signal-integrity model Connector
pins: 1, 2, 3, 4, 5, 6, 7

## Header 7H
designator P?
Header, 7-Pin, Right Angle; LatestRevisionDate: 17-Jul-2002; LatestRevisionNote: Re-released for DXP Platform.; Publisher: Altium Limited
footprint HDR1X7H (Connector; Header; 7 Position; Right Angle)
signal-integrity model Connector
pins: 1, 2, 3, 4, 5, 6, 7

## Header 7X2
designator P?
Header, 7-Pin, Dual row; LatestRevisionDate: 17-Jul-2002; LatestRevisionNote: Re-released for DXP Platform.; Publisher: Altium Limited
footprint HDR2X7 (Connector; Header; 7x2 Position)
signal-integrity model Connector
pins: 1, 2, 3, 4, 5, 6, 7, 8, 9, 10, 11, 12, 13, 14

## Header 7X2A
designator P?
Header, 7-Pin, Dual row; LatestRevisionDate: 17-Jul-2002; LatestRevisionNote: Re-released for DXP Platform.; Publisher: Altium Limited
footprint HDR2X7_CEN (Connector; Header; 7x2 Position)
signal-integrity model Connector
pins: 1, 2, 3, 4, 5, 6, 7, 8, 9, 10, 11, 12, 13, 14

## Header 7X2H
designator P?
Header, 7-Pin, Dual row, Right Angle; LatestRevisionDate: 17-Jul-2002; LatestRevisionNote: Re-released for DXP Platform.; Publisher: Altium Limited
footprint HDR2X7H (Connector; Header; 7x2 Position; Right Angle)
signal-integrity model Connector
pins: 1, 2, 3, 4, 5, 6, 7, 8, 9, 10, 11, 12, 13, 14

## Header 8
designator P?
Header, 8-Pin; LatestRevisionDate: 17-Jul-2002; LatestRevisionNote: Re-released for DXP Platform.; Publisher: Altium Limited
footprint HDR1X8 (Connector; Header; 8 Position)
signal-integrity model Connector
pins: 1, 2, 3, 4, 5, 6, 7, 8

## Header 8H
designator P?
Header, 8-Pin, Right Angle; LatestRevisionDate: 17-Jul-2002; LatestRevisionNote: Re-released for DXP Platform.; Publisher: Altium Limited
footprint HDR1X8H (Connector; Header; 8 Position; Right Angle)
signal-integrity model Connector
pins: 1, 2, 3, 4, 5, 6, 7, 8

## Header 8X2
designator P?
Header, 8-Pin, Dual row; LatestRevisionDate: 17-Jul-2002; LatestRevisionNote: Re-released for DXP Platform.; Publisher: Altium Limited
footprint HDR2X8 (Connector; Header; 8x2 Position)
signal-integrity model Connector
pins: 1, 2, 3, 4, 5, 6, 7, 8, 9, 10, 11, 12, 13, 14, 15, 16

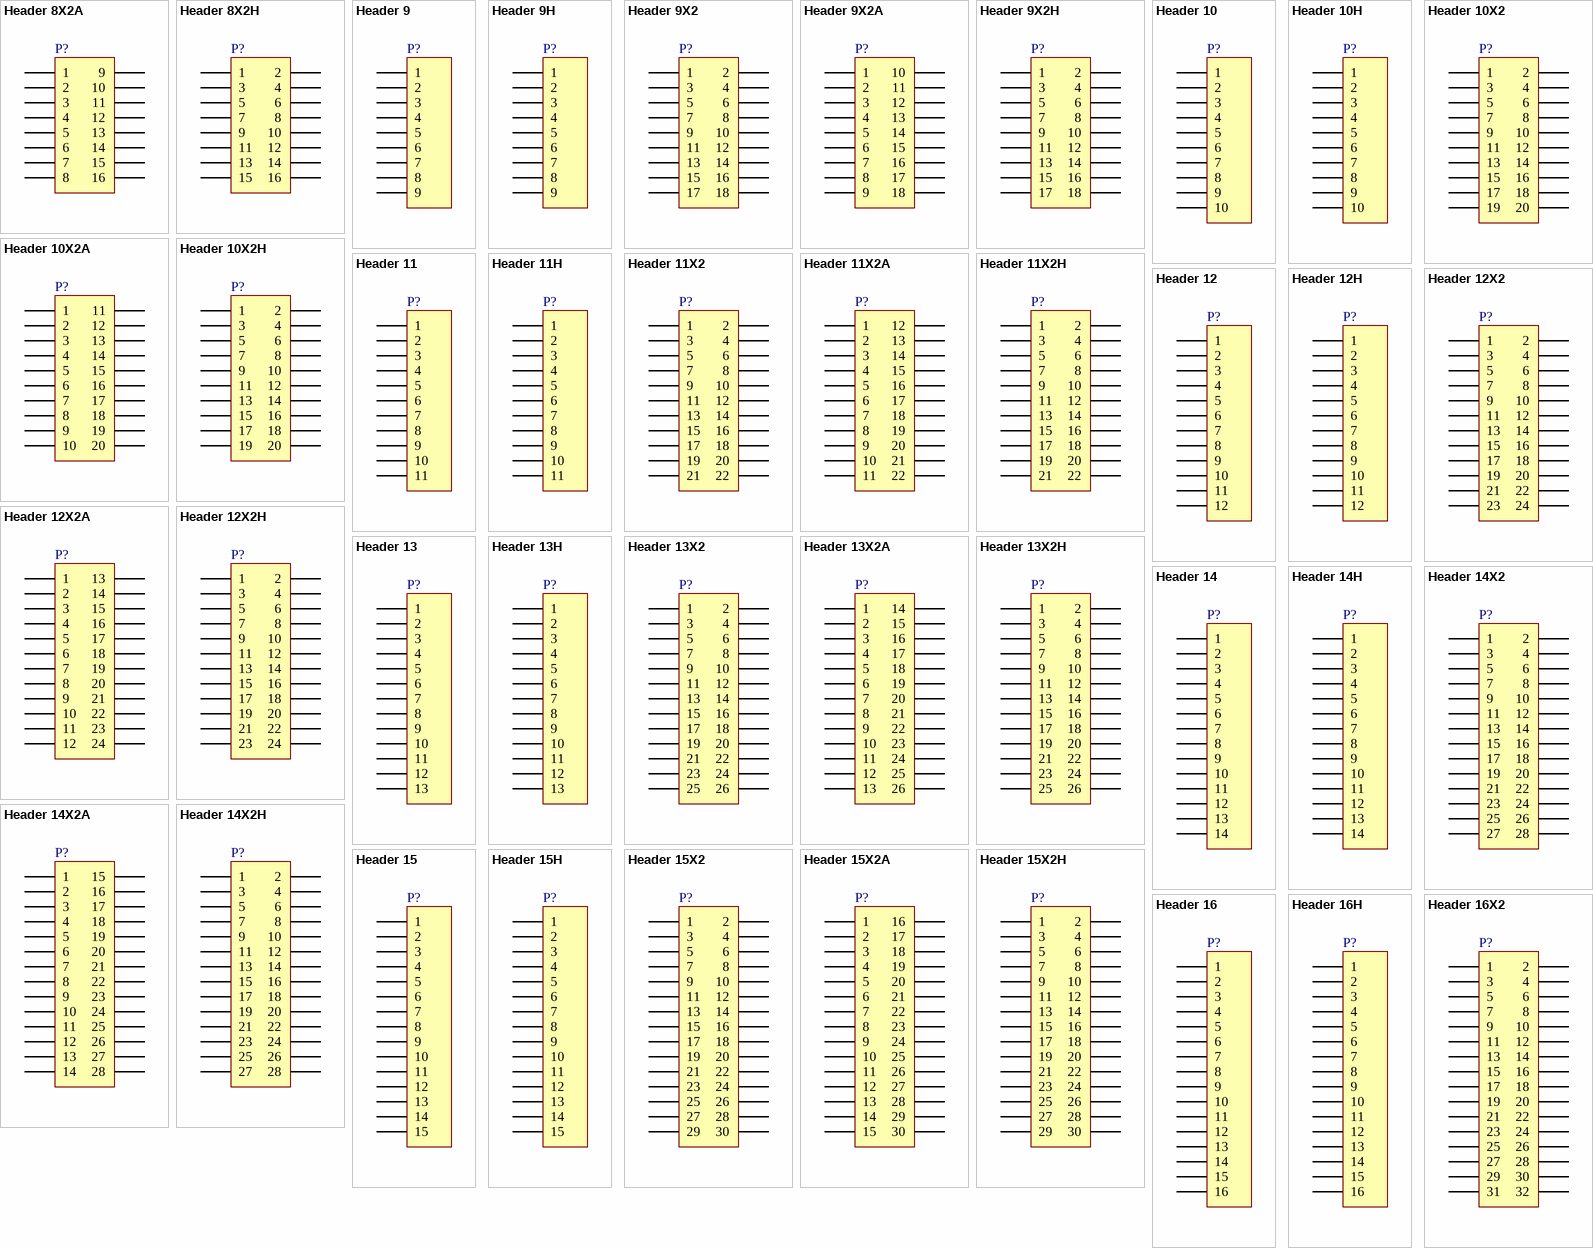
[diagram p2: symbols Header 8X2A to Header 16X2]

## Header 8X2A
designator P?
Header, 8-Pin, Dual row; LatestRevisionDate: 17-Jul-2002; LatestRevisionNote: Re-released for DXP Platform.; Publisher: Altium Limited
footprint HDR2X8_CEN (Connector; Header; 8x2 Position)
signal-integrity model Connector
pins: 1, 2, 3, 4, 5, 6, 7, 8, 9, 10, 11, 12, 13, 14, 15, 16

## Header 8X2H
designator P?
Header, 8-Pin, Dual row, Right Angle; LatestRevisionDate: 17-Jul-2002; LatestRevisionNote: Re-released for DXP Platform.; Publisher: Altium Limited
footprint HDR2X8H (Connector; Header; 8x2 Position; Right Angle)
signal-integrity model Connector
pins: 1, 2, 3, 4, 5, 6, 7, 8, 9, 10, 11, 12, 13, 14, 15, 16

## Header 9
designator P?
Header, 9-Pin; LatestRevisionDate: 17-Jul-2002; LatestRevisionNote: Re-released for DXP Platform.; Publisher: Altium Limited
footprint HDR1X9 (Connector; Header; 9 Position)
signal-integrity model Connector
pins: 1, 2, 3, 4, 5, 6, 7, 8, 9

## Header 9H
designator P?
Header, 9-Pin, Right Angle; LatestRevisionDate: 17-Jul-2002; LatestRevisionNote: Re-released for DXP Platform.; Publisher: Altium Limited
footprint HDR1X9H (Connector; Header; 9 Position; Right Angle)
signal-integrity model Connector
pins: 1, 2, 3, 4, 5, 6, 7, 8, 9

## Header 9X2
designator P?
Header, 9-Pin, Dual row; LatestRevisionDate: 17-Jul-2002; LatestRevisionNote: Re-released for DXP Platform.; Publisher: Altium Limited
footprint HDR2X9 (Connector; Header; 9x2 Position)
signal-integrity model Connector
pins: 1, 2, 3, 4, 5, 6, 7, 8, 9, 10, 11, 12, 13, 14, 15, 16, 17, 18

## Header 9X2A
designator P?
Header, 9-Pin, Dual row; LatestRevisionDate: 17-Jul-2002; LatestRevisionNote: Re-released for DXP Platform.; Publisher: Altium Limited
footprint HDR2X9_CEN (Connector; Header; 9x2 Position)
signal-integrity model Connector
pins: 1, 2, 3, 4, 5, 6, 7, 8, 9, 10, 11, 12, 13, 14, 15, 16, 17, 18

## Header 9X2H
designator P?
Header, 9-Pin, Dual row, Right Angle; LatestRevisionDate: 17-Jul-2002; LatestRevisionNote: Re-released for DXP Platform.; Publisher: Altium Limited
footprint HDR2X9H (Connector; Header; 9x2 Position; Right Angle)
signal-integrity model Connector
pins: 1, 2, 3, 4, 5, 6, 7, 8, 9, 10, 11, 12, 13, 14, 15, 16, 17, 18

## Header 10
designator P?
Header, 10-Pin; LatestRevisionDate: 17-Jul-2002; LatestRevisionNote: Re-released for DXP Platform.; Publisher: Altium Limited
footprint HDR1X10 (Connector; Header; 10 Position)
signal-integrity model Connector
pins: 1, 2, 3, 4, 5, 6, 7, 8, 9, 10

## Header 10H
designator P?
Header, 10-Pin, Right Angle; LatestRevisionDate: 17-Jul-2002; LatestRevisionNote: Re-released for DXP Platform.; Publisher: Altium Limited
footprint HDR1X10H (Connector; Header; 10 Position; Right Angle)
signal-integrity model Connector
pins: 1, 2, 3, 4, 5, 6, 7, 8, 9, 10

## Header 10X2
designator P?
Header, 10-Pin, Dual row; LatestRevisionDate: 17-Jul-2002; LatestRevisionNote: Re-released for DXP Platform.; Publisher: Altium Limited
footprint HDR2X10 (Connector; Header; 10x2 Position)
signal-integrity model Connector
pins: 1, 2, 3, 4, 5, 6, 7, 8, 9, 10, 11, 12, 13, 14, 15, 16, 17, 18, 19, 20

## Header 10X2A
designator P?
Header, 10-Pin, Dual row; LatestRevisionDate: 17-Jul-2002; LatestRevisionNote: Re-released for DXP Platform.; Publisher: Altium Limited
footprint HDR2X10_CEN (Connector; Header; 10x2 Position)
signal-integrity model Connector
footprint HDR2X10 IDC (Connector; Header; 10x2 Position)
pins: 1, 2, 3, 4, 5, 6, 7, 8, 9, 10, 11, 12, 13, 14, 15, 16, 17, 18, 19, 20

## Header 10X2H
designator P?
Header, 10-Pin, Dual row, Right Angle; LatestRevisionDate: 17-Jul-2002; LatestRevisionNote: Re-released for DXP Platform.; Publisher: Altium Limited
footprint HDR2X10H (Connector; Header; 10x2 Position; Right Angle)
signal-integrity model Connector
pins: 1, 2, 3, 4, 5, 6, 7, 8, 9, 10, 11, 12, 13, 14, 15, 16, 17, 18, 19, 20

## Header 11
designator P?
Header, 11-Pin; LatestRevisionDate: 17-Jul-2002; LatestRevisionNote: Re-released for DXP Platform.; Publisher: Altium Limited
footprint HDR1X11 (Connector; Header; 11 Position)
signal-integrity model Connector
pins: 1, 2, 3, 4, 5, 6, 7, 8, 9, 10, 11

## Header 11H
designator P?
Header, 11-Pin, Right Angle; LatestRevisionDate: 17-Jul-2002; LatestRevisionNote: Re-released for DXP Platform.; Publisher: Altium Limited
footprint HDR1X11H (Connector; Header; 11 Position; Right Angle)
signal-integrity model Connector
pins: 1, 2, 3, 4, 5, 6, 7, 8, 9, 10, 11

## Header 11X2
designator P?
Header, 11-Pin, Dual row; LatestRevisionDate: 17-Jul-2002; LatestRevisionNote: Re-released for DXP Platform.; Publisher: Altium Limited
footprint HDR2X11 (Connector; Header; 11x2 Position)
signal-integrity model Connector
pins: 1, 2, 3, 4, 5, 6, 7, 8, 9, 10, 11, 12, 13, 14, 15, 16, 17, 18, 19, 20, 21, 22

## Header 11X2A
designator P?
Header, 11-Pin, Dual row; LatestRevisionDate: 17-Jul-2002; LatestRevisionNote: Re-released for DXP Platform.; Publisher: Altium Limited
footprint HDR2X11_CEN (Connector; Header; 11x2 Position)
signal-integrity model Connector
pins: 1, 2, 3, 4, 5, 6, 7, 8, 9, 10, 11, 12, 13, 14, 15, 16, 17, 18, 19, 20, 21, 22

## Header 11X2H
designator P?
Header, 11-Pin, Dual row, Right Angle; LatestRevisionDate: 17-Jul-2002; LatestRevisionNote: Re-released for DXP Platform.; Publisher: Altium Limited
footprint HDR2X11H (Connector; Header; 11x2 Position; Right Angle)
signal-integrity model Connector
pins: 1, 2, 3, 4, 5, 6, 7, 8, 9, 10, 11, 12, 13, 14, 15, 16, 17, 18, 19, 20, 21, 22

## Header 12
designator P?
Header, 12-Pin; LatestRevisionDate: 17-Jul-2002; LatestRevisionNote: Re-released for DXP Platform.; Publisher: Altium Limited
footprint HDR1X12 (Connector; Header; 12 Position)
signal-integrity model Connector
pins: 1, 2, 3, 4, 5, 6, 7, 8, 9, 10, 11, 12

## Header 12H
designator P?
Header, 12-Pin, Right Angle; LatestRevisionDate: 17-Jul-2002; LatestRevisionNote: Re-released for DXP Platform.; Publisher: Altium Limited
footprint HDR1X12H (Connector; Header; 12 Position; Right Angle)
signal-integrity model Connector
pins: 1, 2, 3, 4, 5, 6, 7, 8, 9, 10, 11, 12

## Header 12X2
designator P?
Header, 12-Pin, Dual row; LatestRevisionDate: 17-Jul-2002; LatestRevisionNote: Re-released for DXP Platform.; Publisher: Altium Limited
footprint HDR2X12 (Connector; Header; 12x2 Position)
signal-integrity model Connector
pins: 1, 2, 3, 4, 5, 6, 7, 8, 9, 10, 11, 12, 13, 14, 15, 16, 17, 18, 19, 20, 21, 22, 23, 24

## Header 12X2A
designator P?
Header, 12-Pin, Dual row; LatestRevisionDate: 17-Jul-2002; LatestRevisionNote: Re-released for DXP Platform.; Publisher: Altium Limited
footprint HDR2X12_CEN (Connector; Header; 12x2 Position)
signal-integrity model Connector
pins: 1, 2, 3, 4, 5, 6, 7, 8, 9, 10, 11, 12, 13, 14, 15, 16, 17, 18, 19, 20, 21, 22, 23, 24

## Header 12X2H
designator P?
Header, 12-Pin, Dual row, Right Angle; LatestRevisionDate: 17-Jul-2002; LatestRevisionNote: Re-released for DXP Platform.; Publisher: Altium Limited
footprint HDR2X12H (Connector; Header; 12x2 Position; Right Angle)
signal-integrity model Connector
pins: 1, 2, 3, 4, 5, 6, 7, 8, 9, 10, 11, 12, 13, 14, 15, 16, 17, 18, 19, 20, 21, 22, 23, 24

## Header 13
designator P?
Header, 13-Pin; LatestRevisionDate: 17-Jul-2002; LatestRevisionNote: Re-released for DXP Platform.; Publisher: Altium Limited
footprint HDR1X13 (Connector; Header; 13 Position)
signal-integrity model Connector
pins: 1, 2, 3, 4, 5, 6, 7, 8, 9, 10, 11, 12, 13

## Header 13H
designator P?
Header, 13-Pin, Right Angle; LatestRevisionDate: 17-Jul-2002; LatestRevisionNote: Re-released for DXP Platform.; Publisher: Altium Limited
footprint HDR1X13H (Connector; Header; 13 Position; Right Angle)
signal-integrity model Connector
pins: 1, 2, 3, 4, 5, 6, 7, 8, 9, 10, 11, 12, 13

## Header 13X2
designator P?
Header, 13-Pin, Dual row; LatestRevisionDate: 17-Jul-2002; LatestRevisionNote: Re-released for DXP Platform.; Publisher: Altium Limited
footprint HDR2X13 (Connector; Header; 13x2 Position)
signal-integrity model Connector
pins: 1, 2, 3, 4, 5, 6, 7, 8, 9, 10, 11, 12, 13, 14, 15, 16, 17, 18, 19, 20, 21, 22, 23, 24, 25, 26

## Header 13X2A
designator P?
Header, 13-Pin, Dual row; LatestRevisionDate: 17-Jul-2002; LatestRevisionNote: Re-released for DXP Platform.; Publisher: Altium Limited
footprint HDR2X13_CEN (Connector; Header; 13x2 Position)
signal-integrity model Connector
pins: 1, 2, 3, 4, 5, 6, 7, 8, 9, 10, 11, 12, 13, 14, 15, 16, 17, 18, 19, 20, 21, 22, 23, 24, 25, 26

## Header 13X2H
designator P?
Header, 13-Pin, Dual row, Right Angle; LatestRevisionDate: 17-Jul-2002; LatestRevisionNote: Re-released for DXP Platform.; Publisher: Altium Limited
footprint HDR2X13H (Connector; Header; 13x2 Position; Right Angle)
signal-integrity model Connector
pins: 1, 2, 3, 4, 5, 6, 7, 8, 9, 10, 11, 12, 13, 14, 15, 16, 17, 18, 19, 20, 21, 22, 23, 24, 25, 26

## Header 14
designator P?
Header, 14-Pin; LatestRevisionDate: 17-Jul-2002; LatestRevisionNote: Re-released for DXP Platform.; Publisher: Altium Limited
footprint HDR1X14 (Connector; Header; 14 Position)
signal-integrity model Connector
pins: 1, 2, 3, 4, 5, 6, 7, 8, 9, 10, 11, 12, 13, 14

## Header 14H
designator P?
Header, 14-Pin, Right Angle; LatestRevisionDate: 17-Jul-2002; LatestRevisionNote: Re-released for DXP Platform.; Publisher: Altium Limited
footprint HDR1X14H (Connector; Header; 14 Position; Right Angle)
signal-integrity model Connector
pins: 1, 2, 3, 4, 5, 6, 7, 8, 9, 10, 11, 12, 13, 14

## Header 14X2
designator P?
Header, 14-Pin, Dual row; LatestRevisionDate: 17-Jul-2002; LatestRevisionNote: Re-released for DXP Platform.; Publisher: Altium Limited
footprint HDR2X14 (Connector; Header; 14x2 Position)
signal-integrity model Connector
pins: 1, 2, 3, 4, 5, 6, 7, 8, 9, 10, 11, 12, 13, 14, 15, 16, 17, 18, 19, 20, 21, 22, 23, 24, 25, 26, 27, 28

## Header 14X2A
designator P?
Header, 14-Pin, Dual row; LatestRevisionDate: 17-Jul-2002; LatestRevisionNote: Re-released for DXP Platform.; Publisher: Altium Limited
footprint HDR2X14_CEN (Connector; Header; 14x2 Position)
signal-integrity model Connector
pins: 1, 2, 3, 4, 5, 6, 7, 8, 9, 10, 11, 12, 13, 14, 15, 16, 17, 18, 19, 20, 21, 22, 23, 24, 25, 26, 27, 28

## Header 14X2H
designator P?
Header, 14-Pin, Dual row, Right Angle; LatestRevisionDate: 17-Jul-2002; LatestRevisionNote: Re-released for DXP Platform.; Publisher: Altium Limited
footprint HDR2X14H (Connector; Header; 14x2 Position; Right Angle)
signal-integrity model Connector
pins: 1, 2, 3, 4, 5, 6, 7, 8, 9, 10, 11, 12, 13, 14, 15, 16, 17, 18, 19, 20, 21, 22, 23, 24, 25, 26, 27, 28

## Header 15
designator P?
Header, 15-Pin; LatestRevisionDate: 17-Jul-2002; LatestRevisionNote: Re-released for DXP Platform.; Publisher: Altium Limited
footprint HDR1X15 (Connector; Header; 15 Position)
signal-integrity model Connector
pins: 1, 2, 3, 4, 5, 6, 7, 8, 9, 10, 11, 12, 13, 14, 15

## Header 15H
designator P?
Header, 15-Pin, Right Angle; LatestRevisionDate: 17-Jul-2002; LatestRevisionNote: Re-released for DXP Platform.; Publisher: Altium Limited
footprint HDR1X15H (Connector; Header; 15 Position; Right Angle)
signal-integrity model Connector
pins: 1, 2, 3, 4, 5, 6, 7, 8, 9, 10, 11, 12, 13, 14, 15

## Header 15X2
designator P?
Header, 15-Pin, Dual row; LatestRevisionDate: 17-Jul-2002; LatestRevisionNote: Re-released for DXP Platform.; Publisher: Altium Limited
footprint HDR2X15 (Connector; Header; 15x2 Position)
signal-integrity model Connector
pins: 1, 2, 3, 4, 5, 6, 7, 8, 9, 10, 11, 12, 13, 14, 15, 16, 17, 18, 19, 20, 21, 22, 23, 24, 25, 26, 27, 28, 29, 30

## Header 15X2A
designator P?
Header, 15-Pin, Dual row; LatestRevisionDate: 17-Jul-2002; LatestRevisionNote: Re-released for DXP Platform.; Publisher: Altium Limited
footprint HDR2X15_CEN (Connector; Header; 15x2 Position)
signal-integrity model Connector
pins: 1, 2, 3, 4, 5, 6, 7, 8, 9, 10, 11, 12, 13, 14, 15, 16, 17, 18, 19, 20, 21, 22, 23, 24, 25, 26, 27, 28, 29, 30

## Header 15X2H
designator P?
Header, 15-Pin, Dual row, Right Angle; LatestRevisionDate: 17-Jul-2002; LatestRevisionNote: Re-released for DXP Platform.; Publisher: Altium Limited
footprint HDR2X15H (Connector; Header; 15x2 Position; Right Angle)
signal-integrity model Connector
pins: 1, 2, 3, 4, 5, 6, 7, 8, 9, 10, 11, 12, 13, 14, 15, 16, 17, 18, 19, 20, 21, 22, 23, 24, 25, 26, 27, 28, 29, 30

## Header 16
designator P?
Header, 16-Pin; LatestRevisionDate: 17-Jul-2002; LatestRevisionNote: Re-released for DXP Platform.; Publisher: Altium Limited
footprint HDR1X16 (Connector; Header; 16 Position)
signal-integrity model Connector
pins: 1, 2, 3, 4, 5, 6, 7, 8, 9, 10, 11, 12, 13, 14, 15, 16

## Header 16H
designator P?
Header, 16-Pin, Right Angle; LatestRevisionDate: 17-Jul-2002; LatestRevisionNote: Re-released for DXP Platform.; Publisher: Altium Limited
footprint HDR1X16H (Connector; Header; 16 Position; Right Angle)
signal-integrity model Connector
pins: 1, 2, 3, 4, 5, 6, 7, 8, 9, 10, 11, 12, 13, 14, 15, 16

## Header 16X2
designator P?
Header, 16-Pin, Dual row; LatestRevisionDate: 17-Jul-2002; LatestRevisionNote: Re-released for DXP Platform.; Publisher: Altium Limited
footprint HDR2X16 (Connector; Header; 16x2 Position)
signal-integrity model Connector
pins: 1, 2, 3, 4, 5, 6, 7, 8, 9, 10, 11, 12, 13, 14, 15, 16, 17, 18, 19, 20, 21, 22, 23, 24, 25, 26, 27, 28, 29, 30, 31, 32

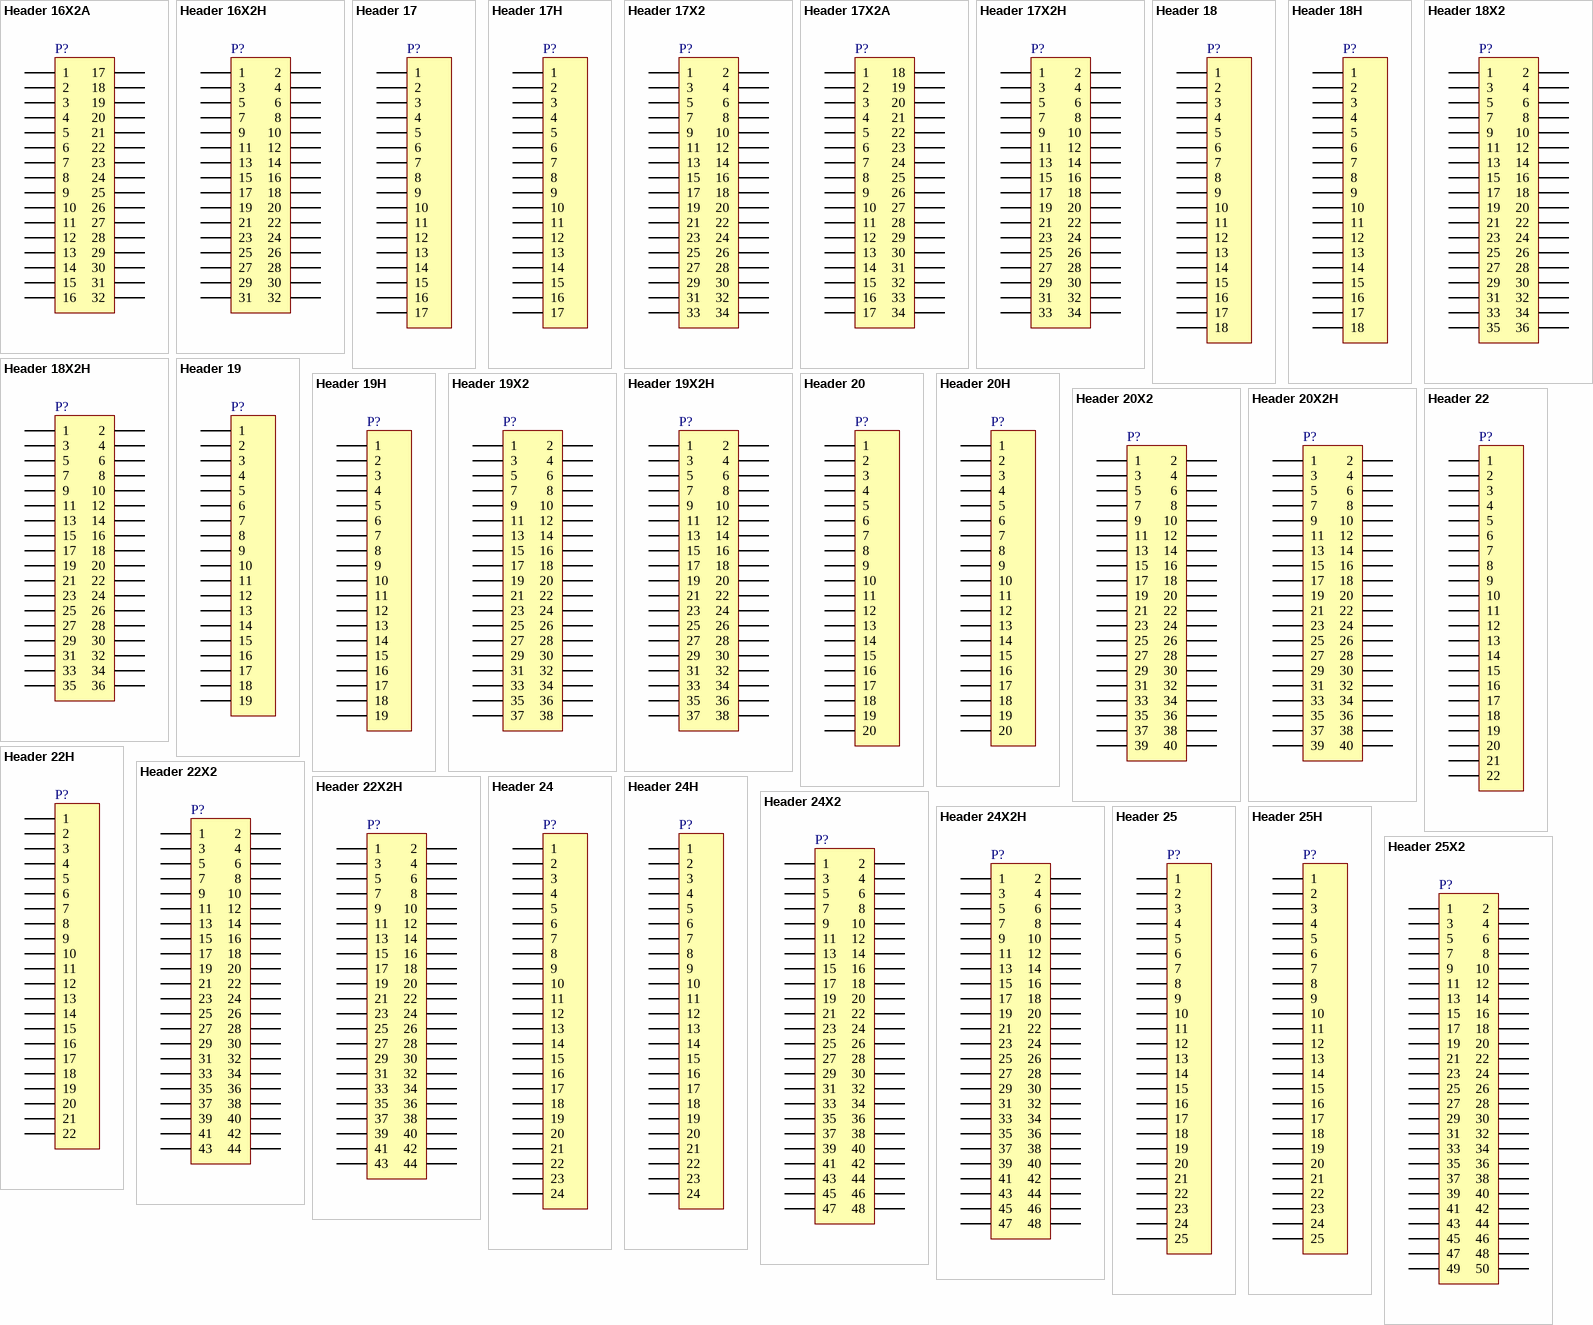
[diagram p3: symbols Header 16X2A to Header 25X2]

## Header 16X2A
designator P?
Header, 16-Pin, Dual row; LatestRevisionDate: 17-Jul-2002; LatestRevisionNote: Re-released for DXP Platform.; Publisher: Altium Limited
footprint HDR2X16_CEN (Connector; Header; 16x2 Position)
signal-integrity model Connector
pins: 1, 2, 3, 4, 5, 6, 7, 8, 9, 10, 11, 12, 13, 14, 15, 16, 17, 18, 19, 20, 21, 22, 23, 24, 25, 26, 27, 28, 29, 30, 31, 32

## Header 16X2H
designator P?
Header, 16-Pin, Dual row, Right Angle; LatestRevisionDate: 17-Jul-2002; LatestRevisionNote: Re-released for DXP Platform.; Publisher: Altium Limited
footprint HDR2X16H (Connector; Header; 16x2 Position; Right Angle)
signal-integrity model Connector
pins: 1, 2, 3, 4, 5, 6, 7, 8, 9, 10, 11, 12, 13, 14, 15, 16, 17, 18, 19, 20, 21, 22, 23, 24, 25, 26, 27, 28, 29, 30, 31, 32

## Header 17
designator P?
Header, 17-Pin; LatestRevisionDate: 17-Jul-2002; LatestRevisionNote: Re-released for DXP Platform.; Publisher: Altium Limited
footprint HDR1X17 (Connector; Header; 17 Position)
signal-integrity model Connector
pins: 1, 2, 3, 4, 5, 6, 7, 8, 9, 10, 11, 12, 13, 14, 15, 16, 17

## Header 17H
designator P?
Header, 17-Pin, Right Angle; LatestRevisionDate: 17-Jul-2002; LatestRevisionNote: Re-released for DXP Platform.; Publisher: Altium Limited
footprint HDR1X17H (Connector; Header; 17 Position; Right Angle)
signal-integrity model Connector
pins: 1, 2, 3, 4, 5, 6, 7, 8, 9, 10, 11, 12, 13, 14, 15, 16, 17

## Header 17X2
designator P?
Header, 17-Pin, Dual row; LatestRevisionDate: 17-Jul-2002; LatestRevisionNote: Re-released for DXP Platform.; Publisher: Altium Limited
footprint HDR2X17 (Connector; Header; 17x2 Position)
signal-integrity model Connector
pins: 1, 2, 3, 4, 5, 6, 7, 8, 9, 10, 11, 12, 13, 14, 15, 16, 17, 18, 19, 20, 21, 22, 23, 24, 25, 26, 27, 28, 29, 30, 31, 32, 33, 34

## Header 17X2A
designator P?
Header, 17-Pin, Dual row; LatestRevisionDate: 17-Jul-2002; LatestRevisionNote: Re-released for DXP Platform.; Publisher: Altium Limited
footprint HDR2X17_CEN (Connector; Header; 17x2 Position)
signal-integrity model Connector
pins: 1, 2, 3, 4, 5, 6, 7, 8, 9, 10, 11, 12, 13, 14, 15, 16, 17, 18, 19, 20, 21, 22, 23, 24, 25, 26, 27, 28, 29, 30, 31, 32, 33, 34

## Header 17X2H
designator P?
Header, 17-Pin, Dual row, Right Angle; LatestRevisionDate: 17-Jul-2002; LatestRevisionNote: Re-released for DXP Platform.; Publisher: Altium Limited
footprint HDR2X17H (Connector; Header; 17x2 Position; Right Angle)
signal-integrity model Connector
pins: 1, 2, 3, 4, 5, 6, 7, 8, 9, 10, 11, 12, 13, 14, 15, 16, 17, 18, 19, 20, 21, 22, 23, 24, 25, 26, 27, 28, 29, 30, 31, 32, 33, 34

## Header 18
designator P?
Header, 18-Pin; LatestRevisionDate: 17-Jul-2002; LatestRevisionNote: Re-released for DXP Platform.; Publisher: Altium Limited
footprint HDR1X18 (Connector; Header; 18 Position)
signal-integrity model Connector
pins: 1, 2, 3, 4, 5, 6, 7, 8, 9, 10, 11, 12, 13, 14, 15, 16, 17, 18

## Header 18H
designator P?
Header, 18-Pin, Right Angle; LatestRevisionDate: 17-Jul-2002; LatestRevisionNote: Re-released for DXP Platform.; Publisher: Altium Limited
footprint HDR1X18H (Connector; Header; 18 Position; Right Angle)
signal-integrity model Connector
pins: 1, 2, 3, 4, 5, 6, 7, 8, 9, 10, 11, 12, 13, 14, 15, 16, 17, 18

## Header 18X2
designator P?
Header, 18-Pin, Dual row; LatestRevisionDate: 17-Jul-2002; LatestRevisionNote: Re-released for DXP Platform.; Publisher: Altium Limited
footprint HDR2X18 (Connector; Header; 18x2 Position)
signal-integrity model Connector
pins: 1, 2, 3, 4, 5, 6, 7, 8, 9, 10, 11, 12, 13, 14, 15, 16, 17, 18, 19, 20, 21, 22, 23, 24, 25, 26, 27, 28, 29, 30, 31, 32, 33, 34, 35, 36

## Header 18X2H
designator P?
Header, 18-Pin, Dual row, Right Angle; LatestRevisionDate: 17-Jul-2002; LatestRevisionNote: Re-released for DXP Platform.; Publisher: Altium Limited
footprint HDR2X18H (Connector; Header; 18x2 Position; Right Angle)
signal-integrity model Connector
pins: 1, 2, 3, 4, 5, 6, 7, 8, 9, 10, 11, 12, 13, 14, 15, 16, 17, 18, 19, 20, 21, 22, 23, 24, 25, 26, 27, 28, 29, 30, 31, 32, 33, 34, 35, 36

## Header 19
designator P?
Header, 19-Pin; LatestRevisionDate: 17-Jul-2002; LatestRevisionNote: Re-released for DXP Platform.; Publisher: Altium Limited
footprint HDR1X19 (Connector; Header; 19 Position)
signal-integrity model Connector
pins: 1, 2, 3, 4, 5, 6, 7, 8, 9, 10, 11, 12, 13, 14, 15, 16, 17, 18, 19

## Header 19H
designator P?
Header, 19-Pin, Right Angle; LatestRevisionDate: 17-Jul-2002; LatestRevisionNote: Re-released for DXP Platform.; Publisher: Altium Limited
footprint HDR1X19H (Connector; Header; 19 Position; Right Angle)
signal-integrity model Connector
pins: 1, 2, 3, 4, 5, 6, 7, 8, 9, 10, 11, 12, 13, 14, 15, 16, 17, 18, 19

## Header 19X2
designator P?
Header, 19-Pin, Dual row; LatestRevisionDate: 17-Jul-2002; LatestRevisionNote: Re-released for DXP Platform.; Publisher: Altium Limited
footprint HDR2X19 (Connector; Header; 19x2 Position)
signal-integrity model Connector
pins: 1, 2, 3, 4, 5, 6, 7, 8, 9, 10, 11, 12, 13, 14, 15, 16, 17, 18, 19, 20, 21, 22, 23, 24, 25, 26, 27, 28, 29, 30, 31, 32, 33, 34, 35, 36, 37, 38

## Header 19X2H
designator P?
Header, 19-Pin, Dual row, Right Angle; LatestRevisionDate: 17-Jul-2002; LatestRevisionNote: Re-released for DXP Platform.; Publisher: Altium Limited
footprint HDR2X19H (Connector; Header; 19x2 Position; Right Angle)
signal-integrity model Connector
pins: 1, 2, 3, 4, 5, 6, 7, 8, 9, 10, 11, 12, 13, 14, 15, 16, 17, 18, 19, 20, 21, 22, 23, 24, 25, 26, 27, 28, 29, 30, 31, 32, 33, 34, 35, 36, 37, 38